# EAGLE library part MCP6004 (library EurorackModularParts)
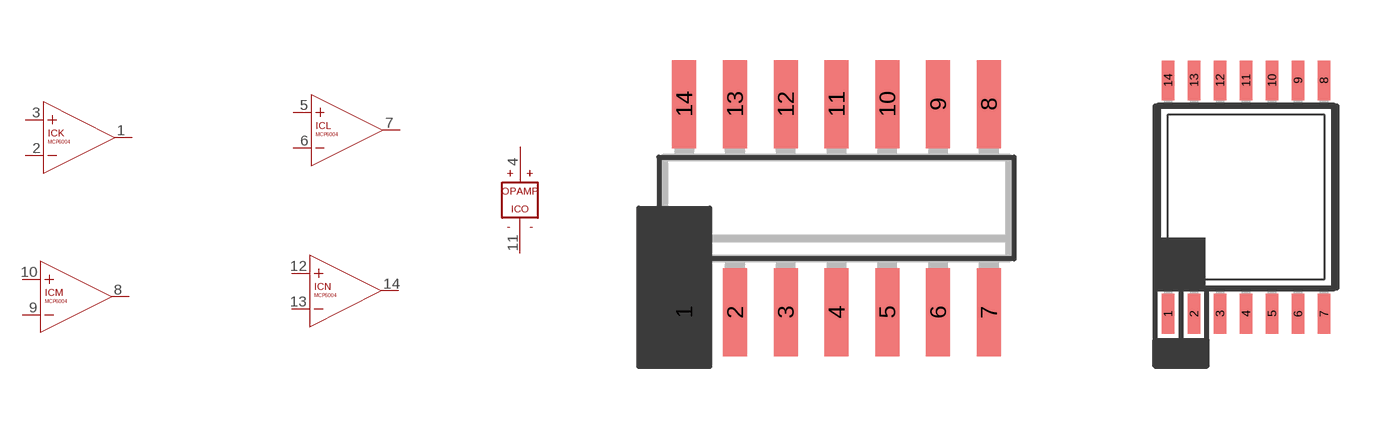
[diagram p7: symbol with the pads of SO14; footprints SO14, TSSOP14]

Designator prefix IC; gates K=OPAMP L=OPAMP M=OPAMP N=OPAMP O=PWR+-

## MCP6004  [SO14]
1  K:OUT  out
2  K:-IN  in
3  K:+IN  in
4  O:V+  pwr
5  L:+IN  in
6  L:-IN  in
7  L:OUT  out
8  M:OUT  out
9  M:-IN  in
10  M:+IN  in
11  O:V-  pwr
12  N:+IN  in
13  N:-IN  in
14  N:OUT  out

## MCP6004TSSOP14  [TSSOP14]
Pads as for SO14

## Footprint SO14 (pad centres in mm)
Small Outline Package 14
smd 0.6 x 2.2: 1 -3.81,-2.6; 2 -2.54,-2.6; 3 -1.27,-2.6; 4 0,-2.6; 5 1.27,-2.6; 6 2.54,-2.6; 7 3.81,-2.6; 8 3.81,2.6; 9 2.54,2.6; 10 1.27,2.6; 11 0,2.6; 12 -1.27,2.6; 13 -2.54,2.6; 14 -3.81,2.6

## Footprint TSSOP14 (pad centres in mm)
smd 0.305 x 0.991: 1 -1.95,-2.918; 2 -1.3,-2.918; 3 -0.65,-2.918; 4 0,-2.918; 5 0.65,-2.918; 6 1.3,-2.918; 7 1.95,-2.918; 8 1.95,2.918; 9 1.3,2.918; 10 0.65,2.918; 11 0,2.918; 12 -0.65,2.918; 13 -1.3,2.918; 14 -1.95,2.918